# Altium schematic symbol library PDTC143ET.SchLib: 1 symbol
Pins are listed as number, name and electrical type; pins without a type are passive.

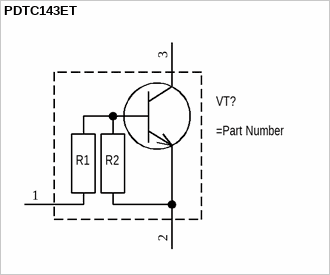
[diagram p0: symbol PDTC143ET]

## PDTC143ET
designator VT?
pins: 1 B, 2 E, 3 C
text: R1; R2